# EAGLE library part EMC1001 (library we-sensor)
Microchip EMC1001 I2C Temperature Sensor (-25°C to +125°C)
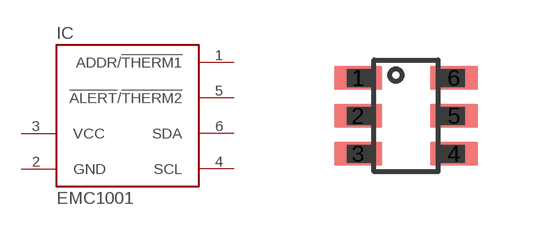
[diagram p5: symbol with the pads of SOT23-6; footprint SOT23-6]

Designator prefix IC

## EMC1001  [SOT23-6]
1  ADDR/!THERM1!
2  GND  pwr
3  VCC  pwr
4  SCL
5  !ALERT!/!THERM2!
6  SDA

## Footprint SOT23-6 (pad centres in mm)
smd 1.2 x 0.6: 1 -1.2,0.95; 2 -1.2,0; 3 -1.2,-0.95; 4 1.2,-0.95; 5 1.2,0; 6 1.2,0.95